# Altium footprint library ST5-20-1.00-L-D-P-TR.PcbLib: 1 footprints
Each footprint in its own frame and in the unit in brackets; x right, y up, seen from the top. Pads: shape width x height; smd on the part's side, far side on the other; paste and mask are expansions set on the pad; w line width, h text height; cw(c..) or ccw(c..) is an arc to the next point about the centre after c.
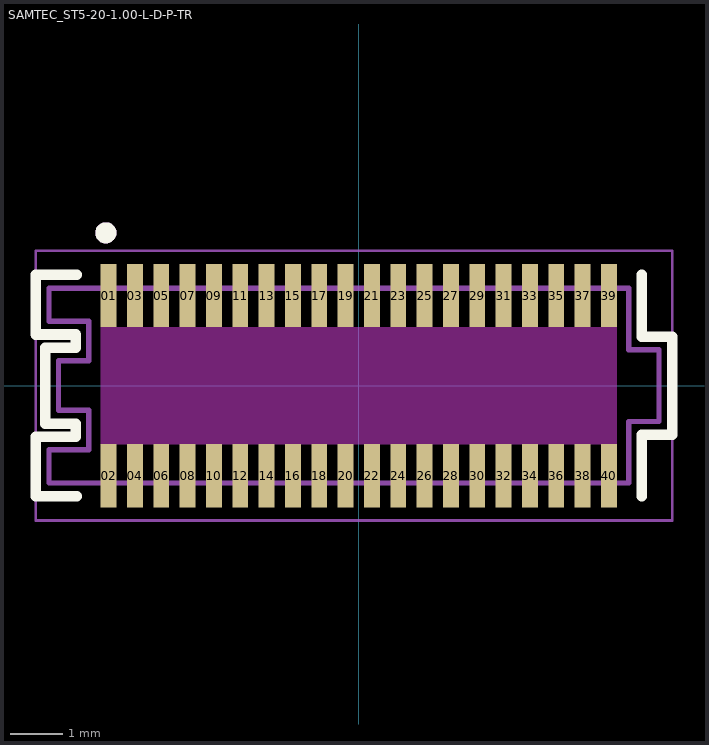
[diagram p0: the footprint, top view; thin cyan lines are the x and y axes]

## SAMTEC_ST5-20-1.00-L-D-P-TR [mm]
pads (40):
  rect 0.3x1.2 smd: 01(-4.75,1.71) 02(-4.75,-1.71) 03(-4.25,1.71) 04(-4.25,-1.71) 05(-3.75,1.71) 06(-3.75,-1.71) 07(-3.25,1.71) 08(-3.25,-1.71) 09(-2.75,1.71) 10(-2.75,-1.71) 11(-2.25,1.71) 12(-2.25,-1.71) 13(-1.75,1.71) 14(-1.75,-1.71) 15(-1.25,1.71) 16(-1.25,-1.71) 17(-0.75,1.71) 18(-0.75,-1.71) 19(-0.25,1.71) 20(-0.25,-1.71) 21(0.25,1.71) 22(0.25,-1.71) 23(0.75,1.71) 24(0.75,-1.71) 25(1.25,1.71) 26(1.25,-1.71) 27(1.75,1.71) 28(1.75,-1.71) 29(2.25,1.71) 30(2.25,-1.71) 31(2.75,1.71) 32(2.75,-1.71) 33(3.25,1.71) 34(3.25,-1.71) 35(3.75,1.71) 36(3.75,-1.71) 37(4.25,1.71) 38(4.25,-1.71) 39(4.75,1.71) 40(4.75,-1.71)
Top Overlay:
  circle w0.2: c-4.8,2.9 r0.1
  lines w0.2: -5.35,-2.1 -6.13,-2.1 -6.13,-0.97 -5.375,-0.97 -5.375,-0.72 -5.95,-0.72 -5.95,0.72 -5.375,0.72 -5.375,0.97 -6.13,0.97 -6.13,2.1 -5.35,2.1 ; 5.375,-2.1 5.375,-0.93 5.95,-0.93 5.95,0.93 5.375,0.93 5.375,2.1
Keep-Out Layer:
  region: 4.9,-1.11 -4.9,-1.11 -4.9,1.11 4.9,1.11
Mechanical 13:
  circle w0.2: c-4.8,2.9 r0.1
  lines w0.1: -5.88,-1.85 5.125,-1.85 5.125,-0.68 5.7,-0.68 5.7,0.68 5.125,0.68 5.125,1.85 -5.88,1.85 -5.88,1.22 -5.125,1.22 -5.125,0.47 -5.7,0.47 -5.7,-0.47 -5.125,-0.47 -5.125,-1.22 -5.88,-1.22 -5.88,-1.85
Mechanical 15:
  lines w0.05: -6.13,-2.56 5.95,-2.56 5.95,2.56 -6.13,2.56 -6.13,-2.56
3D body "ST5-20-1.00-L-D-P-TR.stp": height 3.38, standoff -0.2, extent -5.88,-2 5.7,2